# EAGLE library part ITSYBITSY_EDGE_DEBUG (library BitsyExpander_v3.0_M4)
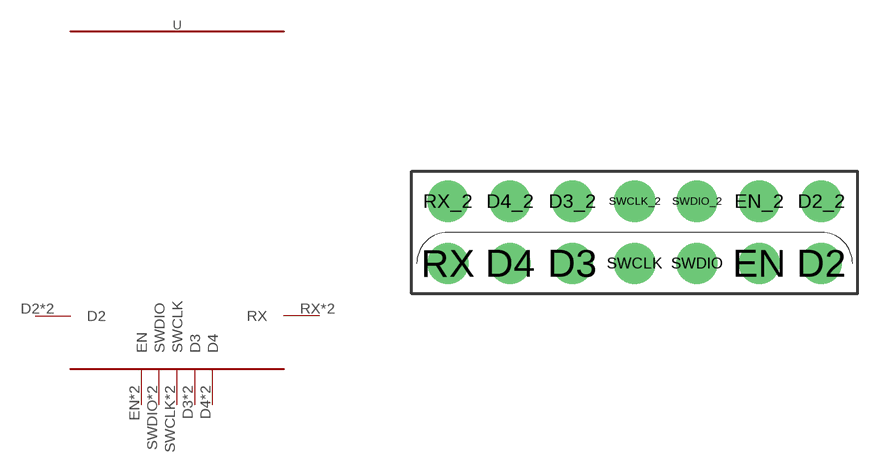
[diagram p0: symbol with the pads of ITSYBITSY_PTH_EDGE_DEBUG; footprint ITSYBITSY_PTH_EDGE_DEBUG]

Designator prefix -

## ITSYBITSY_EDGE_DEBUG  [ITSYBITSY_PTH_EDGE_DEBUG]
D2  D2
D2_2  D2
D3  D3
D3_2  D3
D4  D4
D4_2  D4
EN  EN
EN_2  EN
RX  RX
RX_2  RX
SWCLK  SWCLK
SWCLK_2  SWCLK
SWDIO  SWDIO
SWDIO_2  SWDIO

## Footprint ITSYBITSY_PTH_EDGE_DEBUG (pad centres in mm)
drill 1 pad 1.676: D2 7.62,-1.27; D2_2 7.62,1.27; D3 -2.54,-1.27; D3_2 -2.54,1.27; D4 -5.08,-1.27; D4_2 -5.08,1.27; EN 5.08,-1.27; EN_2 5.08,1.27; RX -7.62,-1.27; RX_2 -7.62,1.27; SWCLK 0,-1.27; SWCLK_2 0,1.27; SWDIO 2.54,-1.27; SWDIO_2 2.54,1.27